# Altium schematic symbol library SCH - MEMORY - WINBOND W25Q256JV.SCHLIB: 1 symbol
Pins are listed as number, name and electrical type; pins without a type are passive.

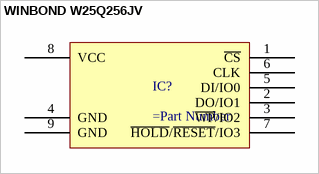
[diagram p0: symbol WINBOND W25Q256JV]

## WINBOND W25Q256JV
designator IC?
pins: 1 ~{CS}, 2 DO/IO1, 3 ~{WP}/IO2, 4 GND, 5 DI/IO0, 6 CLK, 7 ~{HOLD}/~{RESET}/IO3, 8 VCC, 9 GND